# EAGLE library part 418117170905 (library WS-DITV)
WS-DITV Ccompact THT with Flat Actuator 2.54 mm Mechanical Properties Operation Force:800 g Electrical Life:2000 Cycles Actuator Type:Flat Type Switch Position:Off Properties IR:25 mA VR:24 V (DC) IR:100 mA VR:50 V (DC) Contact Resistance Initial:50 mΩ Contact Resistance After Life Test:100 mΩ RISO:100 MΩ Withstanding Voltage:500 V (AC) Actuator Type:Flat Type Switch Position:Off Material Properties Cover Material:PBT Cover Flammability Rating:UL94 V-0 Cover Color:Red Base Material:PBT Base Flammability Rating:UL94 V-0 Base Color:Black Actuator Material:PBT Actuator Flammability Rating:UL94 V-0 Actuator Color:White Contact Material:Copper Alloy Contact Plating:Gold Terminal Material:Copper Alloy Terminal Plating:Gold General Information Operating Temperature:-40 up to +85 °C Packaging Properties Packaging:Tube <https://www.we-online.com/catalog/media/o76752v209%20Family_WS-DITV_4181171709xx.jpg> Details see: https://www.we-online.com/catalog/en/DITV_2_54_COMPACT_THT_WITH_FLAT_ACTUATOR/ Updated by Ella Wu 2022-03-23 2022 (C) Würth Elektronik
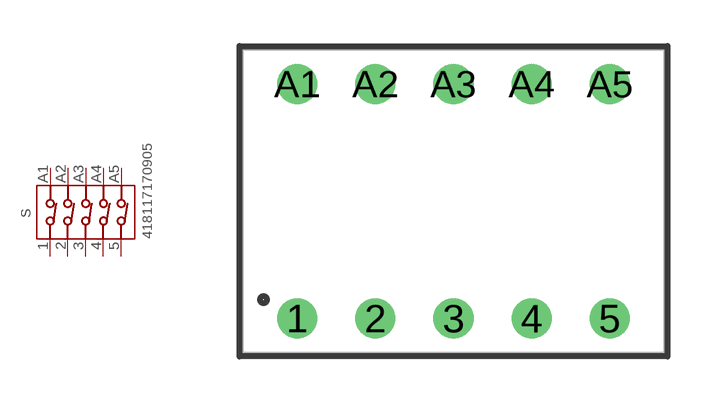
[diagram p12: symbol with the pads of 418117170905; footprint 418117170905]

Designator prefix S

## 418117170905 (DATASHEET-URL: https://www.we-online.com/catalog/datasheet/418117170905.pdf; PART-NUMBER: 418117170905; PINS: 5; QTY: 36; VALUE: 418117170905)  [418117170905]
1  1  pas
2  2  pas
3  3  pas
4  4  pas
5  5  pas
A1  A1  pas
A2  A2  pas
A3  A3  pas
A4  A4  pas
A5  A5  pas

## Footprint 418117170905 (pad centres in mm)
WS-DITV Ccompact THT with Flat Actuator 2.54 mm, 5 Pole
drill 0.8: 1 -5.08,-3.81; 2 -2.54,-3.81; 3 0,-3.81; 4 2.54,-3.81; 5 5.08,-3.81; A1 -5.08,3.81; A2 -2.54,3.81; A3 0,3.81; A4 2.54,3.81; A5 5.08,3.81